# Altium schematic symbol library VGA.SchLib: 14 symbols
Pins are listed as number, name and electrical type; pins without a type are passive.

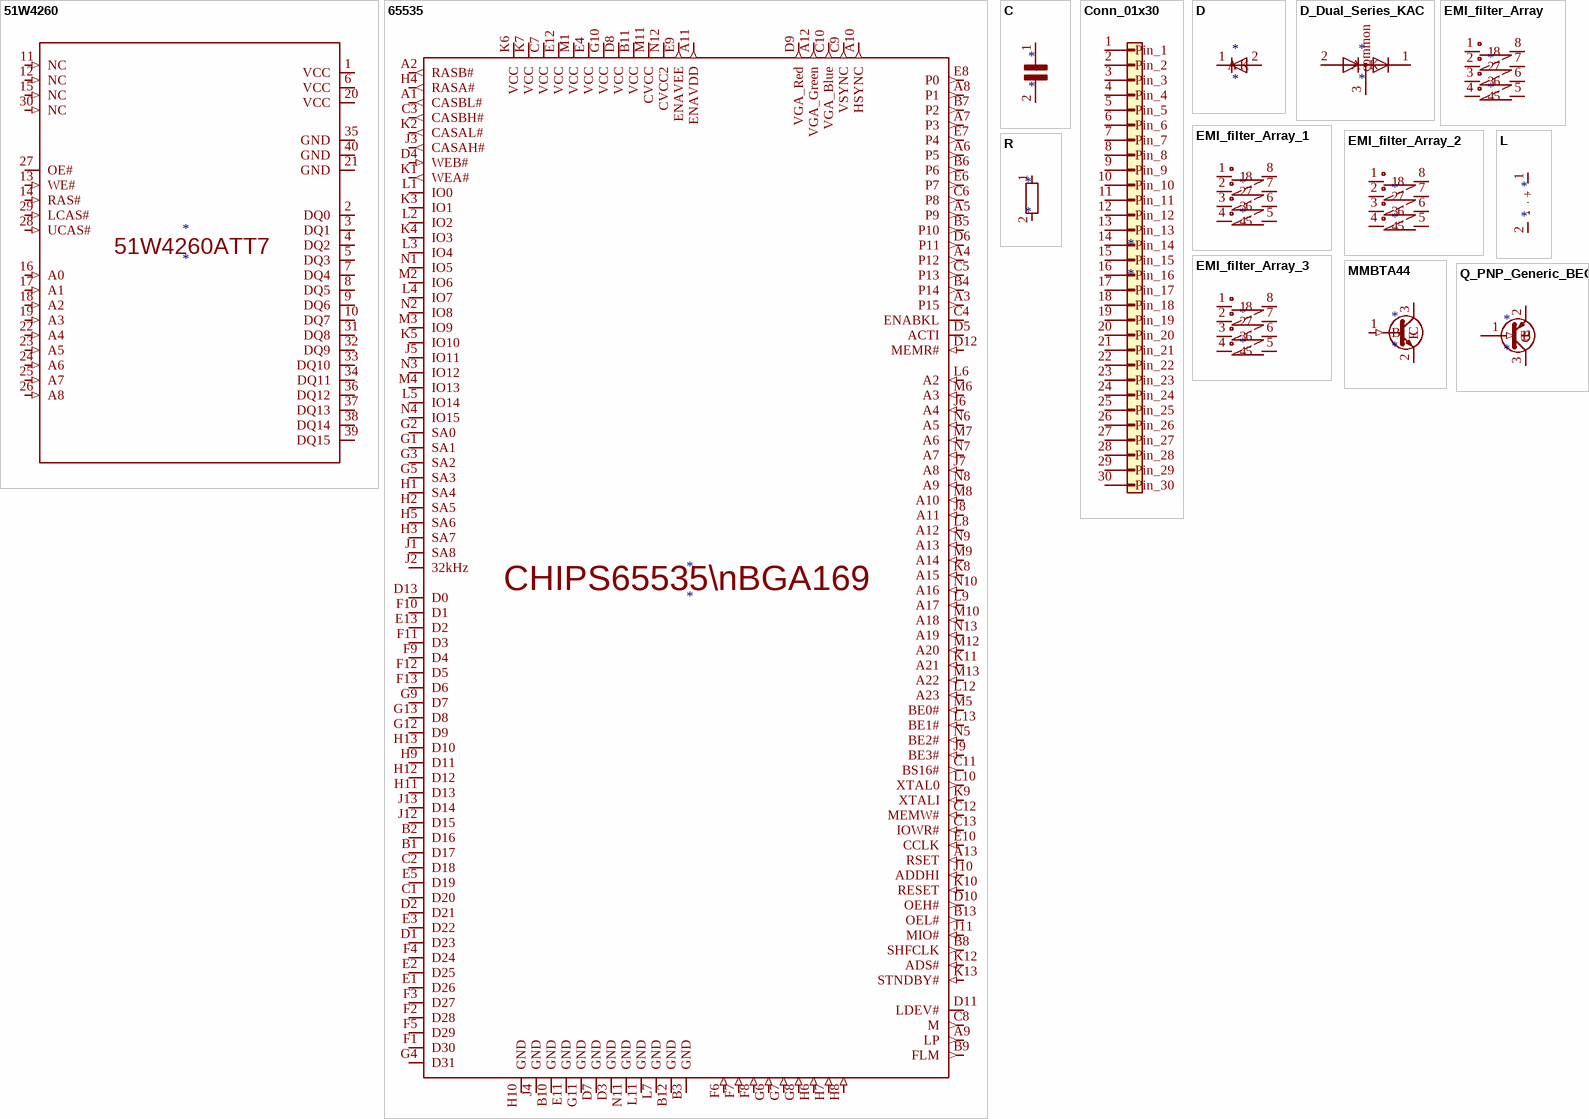
[diagram p0: symbols 51W4260 to R]

## 51W4260
designator *
pins: 1 VCC (power), 2 DQ0 (io), 3 DQ1 (io), 4 DQ2 (io), 5 DQ3 (io), 6 VCC (power), 7 DQ4 (io), 8 DQ5 (io), 9 DQ6 (io), 10 DQ7 (io), 11 NC (in), 12 NC (in), 13 WE# (in), 14 RAS# (in), 15 NC (in), 16 A0 (in), 17 A1 (in), 18 A2 (in), 19 A3 (in), 20 VCC (power), 21 GND (power), 22 A4 (in), 23 A5 (in), 24 A6 (in), 25 A7 (in), 26 A8 (in), 27 OE# (power), 28 UCAS# (in), 29 LCAS# (in), 30 NC (in), 31 DQ8 (io), 32 DQ9 (io), 33 DQ10 (io), 34 DQ11 (io), 35 GND (power), 36 DQ12 (io), 37 DQ13 (io), 38 DQ14 (io), 39 DQ15 (io), 40 GND (power)
text: 51W4260ATT7

## 65535
designator *
pins: A1 CASBL# (out), A2 RASB# (out), A3 P15 (out), A4 P12 (out), A5 P9 (out), A6 P5 (out), A7 P3 (out), A8 P1 (out), A9 LP (out), A10 HSYNC (out), A11 ENAVDD (out), A12 VGA_Green (out), A13 RSET (in), B1 D17 (io), B2 D16 (io), B3 GND (power), B4 P14 (out), B5 P10 (out), B6 P6 (out), B7 P2 (out), B8 SHFCLK (out), B9 FLM (out), B10 GND (power), B11 VCC (power), B12 GND (power), B13 OEL# (out), C1 D20 (io), C2 D18 (io), C3 CASBH# (out), C4 ENABKL (io), C5 P13 (out), C6 P8 (out), C7 VCC (power), C8 M (out), C9 VSYNC (out), C10 VGA_Blue (out), C11 BS16# (out), C12 MEMW# (in), C13 IOWR# (in), D1 D23 (io), D2 D21 (io), D3 GND (power), D4 WEB# (in), D5 ACTI (io), D6 P11 (out), D7 GND (power), D8 VCC (power), D9 VGA_Red (out), D10 OEH# (out), D11 LDEV# (io), D12 MEMR# (in), D13 D0 (io), E1 D26 (io), E2 D25 (io), E3 D22 (io), E4 VCC (power), E5 D19 (io), E6 P7 (out), E7 P4 (out), E8 P0 (out), E9 ENAVEE (out), E10 CCLK (in), E11 GND (power), E12 VCC (power), E13 D2 (io), F1 D30 (io), F2 D28 (io), F3 D27 (io), F4 D24 (io), F5 D29 (io), F6 (in), F7 (in), F8 (in), F9 D4 (io), F10 D1 (io), F11 D3 (io), F12 D5 (io), F13 D6 (io), G1 SA1 (io), G2 SA0 (io), G3 SA2 (io), G4 D31 (io), G5 SA3 (io), G6 (in), G7 (in), G8 (in), G9 D7 (io), G10 VCC (power), G11 GND (power), G12 D9 (io), G13 D8 (io), H1 SA4 (io), H2 SA5 (io), H3 SA7 (io), H4 RASA# (out), H5 SA6 (io), H6 (in), H7 (in), H8 (in), H9 D11 (io), H10 GND (power), H11 D13 (io), H12 D12 (io), H13 D10 (io), J1 SA8 (io), J2 32kHz (io), J3 CASAH# (out), J4 GND (power), J5 IO11 (io), J6 A4 (in), J7 A8 (in), J8 A11 (in), J9 BE3# (in), J10 ADDHI (in), J11 MIO# (in), J12 D15 (io), J13 D14 (io), K1 WEA# (out), K2 CASAL# (out), K3 IO1 (io), K4 IO3 (io), K5 IO10 (io), K6 VCC (power), K7 VCC (power), K8 A15 (in), K9 XTALI (in), K10 RESET (in), K11 A21 (in), K12 ADS# (in), K13 STNDBY# (in), L1 IO0 (io), L2 IO2 (io), L3 IO4 (io), L4 IO7 (io), L5 IO14 (io), L6 A2 (in), L7 GND (power), L8 A12 (in), L9 A17 (in), L10 XTAL0 (out), L11 GND (power), L12 A23 (in), L13 BE1# (in), M1 VCC (power), M2 IO6 (io), M3 IO9 (io), M4 IO13 (io), M5 BE0# (in), M6 A3 (in), M7 A6 (in), M8 A10 (in), M9 A14 (in), M10 A18 (in), M11 CVCC (power), M12 A20 (in), M13 A22 (in), N1 IO5 (io), N2 IO8 (io), N3 IO12 (io), N4 IO15 (io), N5 BE2# (in), N6 A5 (in), N7 A7 (in), N8 A9 (in), N9 A13 (in), N10 A16 (in), N11 GND (power), N12 CVCC2 (power), N13 A19 (in)
text: CHIPS65535\nBGA169

## C
designator *
pins: 1 +, 2 -
1 alternate drawing of the same symbol

## Conn_01x30
designator *
pins: 1 Pin_1, 2 Pin_2, 3 Pin_3, 4 Pin_4, 5 Pin_5, 6 Pin_6, 7 Pin_7, 8 Pin_8, 9 Pin_9, 10 Pin_10, 11 Pin_11, 12 Pin_12, 13 Pin_13, 14 Pin_14, 15 Pin_15, 16 Pin_16, 17 Pin_17, 18 Pin_18, 19 Pin_19, 20 Pin_20, 21 Pin_21, 22 Pin_22, 23 Pin_23, 24 Pin_24, 25 Pin_25, 26 Pin_26, 27 Pin_27, 28 Pin_28, 29 Pin_29, 30 Pin_30

## D
designator *
pins: 1 K, 2 A

## D_Dual_Series_KAC
designator *
pins: 1 K, 2 A, 3 common

## EMI_filter_Array
designator *
pins: 1, 2, 3, 4, 5, 6, 7, 8

## EMI_filter_Array_1
designator *
pins: 1, 2, 3, 4, 5, 6, 7, 8

## EMI_filter_Array_2
designator *
pins: 1, 2, 3, 4, 5, 6, 7, 8

## EMI_filter_Array_3
designator *
pins: 1, 2, 3, 4, 5, 6, 7, 8

## L
designator *
pins: 1 +, 2 -
2 alternate drawings of the same symbol

## MMBTA44
designator *
pins: 1 B (in), 2 E, 3 C

## Q_PNP_Generic_BEC
designator *
pins: 1 B (in), 2 E, 3 C

## R
designator *
pins: 1, 2